# Altium footprint library PcbLib1.PcbLib: 42 footprints (part 1 of 3)
Each footprint in its own frame and in the unit in brackets; x right, y up, seen from the top. Pads: shape width x height; smd on the part's side, far side on the other; paste and mask are expansions set on the pad; w line width, h text height; cw(c..) or ccw(c..) is an arc to the next point about the centre after c.
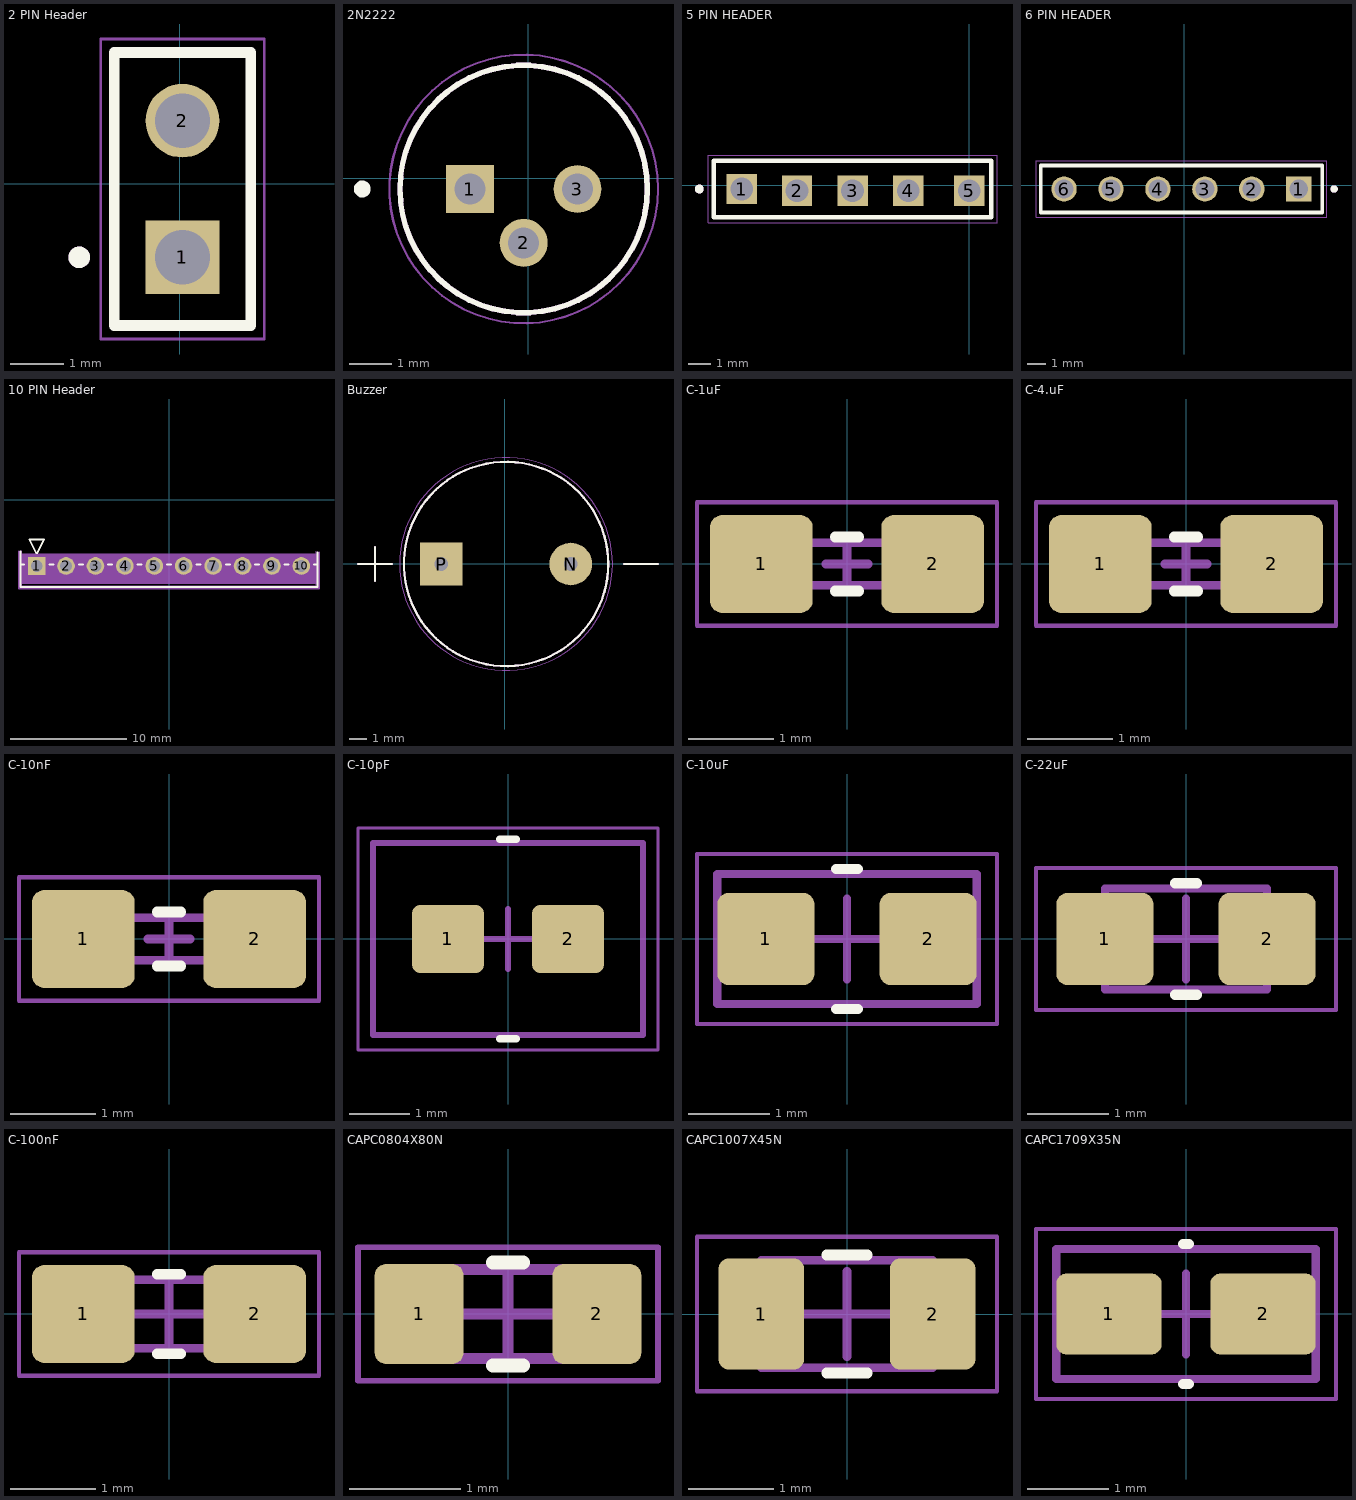
[diagram p0: the footprints below, top view; thin cyan lines are the x and y axes]

## 2 PIN Header [mm]
pads (2):
  rect 1.37x1.37 hole 1.02: 1(0.047,-1.365)
  round 1.37 hole 1.02: 2(0.047,1.175)
Top Overlay:
  circle w0.2: c-1.873,-1.365 r0.1
  lines w0.2: -1.223,-2.635 -1.223,2.445 1.317,2.445 1.317,-2.635 -1.223,-2.635
Top 3D Body:
  circle w0.2: c-1.873,-1.365 r0.1
  lines w0.1: -1.223,-2.635 -1.223,2.445 1.317,2.445 1.317,-2.635 -1.223,-2.635
Top Courtyard:
  lines w0.05: -1.473,-2.885 -1.473,2.695 1.567,2.695 1.567,-2.885 -1.473,-2.885
3D body "MTSW-101-06-G-D-055.stp": height 3.94, standoff -3.68, extent -1.223,-2.762 1.317,2.318

## 2N2222 [mm]
pads (3):
  rect 1.13x1.13 / inner round 1.13 / far side rect 1.13x1.13 hole 0.73 mask+0.102: 1(-1.382,-0.258)
  round 1.13 hole 0.73 mask+0.102: 2(-0.112,-1.528) 3(1.158,-0.258)
Top Overlay:
  circle w0.2: c-3.922,-0.258 r0.1
  circle w0.127: c-0.112,-0.258 r2.92
Top 3D Body:
  circle w0.127: c-0.112,-0.258 r2.92
Top Courtyard:
  circle w0.05: c-0.112,-0.258 r3.17
3D body "step_temp.STEP": height 5.33, standoff -19.05, extent -3.133,-3.046 2.676,2.763

## 5 PIN HEADER [mm]
pads (5):
  rect 1.37x1.37 hole 1.02: 1(-10.232,-0.174) 2(-7.75,-0.25) 3(-5.25,-0.25) 4(-2.75,-0.25) 5(0,-0.25)
Top Overlay:
  circle w0.2: c-12.152,-0.174 r0.1
  lines w0.2: -11.502,-1.444 -11.502,1.096 1,1.096 1,-1.444 -11.502,-1.444
Top 3D Body:
  circle w0.2: c-12.152,-0.174 r0.1
  lines w0.1: -11.502,-1.444 -11.502,1.096 1,1.096 1,-1.444 -11.502,-1.444
Top Courtyard:
  lines w0.05: -11.752,-1.694 -11.752,1.346 1.25,1.346 1.25,-1.694 -11.752,-1.694
3D body "5 pin prog. header.stp": height 2.79, standoff -10.03, extent -11.352,-1.342 1.048,0.994

## 6 PIN HEADER [mm]
pads (6):
  rect 1.37x1.37 / inner round 1.37 / far side rect 1.37x1.37 hole 1.02: 1(6.187,-0.191)
  round 1.37 hole 1.02: 2(3.647,-0.191) 3(1.107,-0.191) 4(-1.433,-0.191) 5(-3.973,-0.191) 6(-6.513,-0.191)
Top Overlay:
  circle w0.2: c8.107,-0.191 r0.1
  lines w0.2: -7.783,-1.461 7.457,-1.461 7.457,1.079 -7.783,1.079 -7.783,-1.461
Top 3D Body:
  circle w0.2: c8.107,-0.191 r0.1
  lines w0.1: -7.783,-1.461 -7.783,1.079 ; -7.783,-1.461 7.457,-1.461 ; -7.783,-1.461 -7.783,1.079 ; -7.783,1.079 7.457,1.079 ; -7.783,1.079 7.457,1.079 ; 7.457,-1.461 7.457,1.079 ; 7.457,-1.461 7.457,1.079
Top Courtyard:
  lines w0.05: -8.033,-1.711 7.707,-1.711 7.707,1.329 -8.033,1.329 -8.033,-1.711
3D body "HEADER6PFEM.stp": height 8.3, standoff -3.2, extent -8.213,-1.391 7.887,1.009

## 10 PIN Header [mil]
pads (10):
  rect 60x60 hole 40 paste-99999 mask+0: 1(-451.02,-224.96)
  round 60 hole 40 paste-99999 mask+0: 2(-351.02,-224.96) 3(-251.02,-224.96) 4(-151.02,-224.96) 5(-51.02,-224.96) 6(48.98,-224.96) 7(148.98,-224.96) 8(248.98,-224.96) 9(348.98,-224.96) 10(448.98,-224.96)
Top Overlay:
  lines w6: -506.02,-219.96 -494.12,-219.96 ; -506.02,-174.69 -506.02,-296.73 503.98,-296.73 503.98,-178.62 ; -452.57,-181.86 -476.02,-134.96 -426.02,-134.96 -449.47,-181.86 ; -407.92,-219.96 -393.83,-219.96 ; -308.21,-219.96 -293.83,-219.96 ; -208.21,-219.96 -193.83,-219.96 ; -108.21,-219.96 -93.83,-219.96 ; -8.21,-219.96 6.17,-219.96 ; 91.79,-219.96 106.17,-219.96 ; 191.79,-219.96 206.17,-219.96 ; 291.79,-219.96 306.17,-219.96 ; 391.79,-219.96 406.17,-219.96 ; 491.79,-219.96 503.98,-219.96
  text ".Designator" at -521.65,-305.12 h50
Top Designator:
  text ".Designator" at -300.93,-238.34 h60
Top 3D Body:
  lines w1: -501.02,-224.96 498.98,-224.96 ; -501.02,-173.62 -501.02,-291.73 498.98,-291.73 498.98,-175.59 ; -476.02,-134.96 -451.02,-184.96 -426.02,-134.96 -476.02,-134.96
  text ".Designator" at -138.52,-249.96 h50
Top Courtyard:
  region: 508.98,-184.96 -511.02,-184.96 -511.02,-285.43 508.98,-285.43
  lines w6: -511.02,-184.96 508.98,-184.96 ; -511.02,-175.75 -511.02,-301.73 508.98,-301.73 508.98,-179.69
3D body "HEADER10P.stp": height 334.65, standoff -118.11, extent -501.02,-274.17 498.98,-175.75

## Buzzer [mm]
pads (2):
  round 2.5 hole 0.8: N(3.89,-0.011)
  rect 2.5x2.5 / inner round 2.5 / far side rect 2.5x2.5 hole 0.8: P(-3.71,-0.011)
Top Overlay:
  circle w0.127: c0.09,-0.011 r6
  lines w0.127: -8.6,-0.011 -6.6,-0.011 ; -7.6,-1.011 -7.6,0.989 ; 7.01,-0.011 9.01,-0.011
Top 3D Body:
  circle w0.127: c0.09,-0.011 r6
  lines w0.127: -8.6,-0.011 -6.6,-0.011 ; -7.6,-1.011 -7.6,0.989 ; 7.01,-0.011 9.01,-0.011
Top Courtyard:
  circle w0.05: c0.09,-0.011 r6.25
3D body "step_temp.STEP": height 7, standoff -7, extent -5.91,-6.011 6.09,5.989

## C-1uF [mm] "Chip Capacitor, 2-Leads, Body 0.53x0.28mm, IPC Medium Density"
height 0.85
pads (2):
  rrect25% 1.2x1.14 smd: 1(-1,0) 2(1,0)
Top Overlay:
  lines w0.127: -0.136,-0.314 0.136,-0.314 ; -0.136,0.313 0.136,0.313
Top Assembly:
  lines w0.1: -0.5,-0.25 -0.5,0.25 0.5,0.25 0.5,-0.25 -0.5,-0.25
Top Designator:
  text ".Designator" at -7.618,-0.508 h1.52
Top Courtyard:
  lines w0.05: -1.75,-0.72 -1.75,0.72 1.75,0.72 1.75,-0.72 -1.75,-0.72
Top Component Center:
  lines w0.1: -0.25,0 0.25,0 ; 0,-0.25 0,0.25
3D body: height 0.85, standoff 0, extent -0.083,-0.138 0.082,0.137
3D body: height 0.85, standoff 0, extent -0.263,-0.138 -0.083,0.137
3D body: height 0.85, standoff 0, extent 0.082,-0.138 0.262,0.137

## C-4.uF [mm] "Chip Capacitor, 2-Leads, Body 0.75x0.50mm, IPC Medium Density"
height 0.85
pads (2):
  rrect25% 1.2x1.14 smd: 1(-1,0) 2(1,0)
Top Overlay:
  lines w0.127: -0.136,-0.314 0.136,-0.314 ; -0.136,0.313 0.136,0.313
Top Assembly:
  lines w0.1: -0.5,-0.25 0.5,-0.25 0.5,0.25 -0.5,0.25 -0.5,-0.25
Top Designator:
  text ".Designator" at -7.618,-0.508 h1.52
Top Courtyard:
  lines w0.05: -1.75,-0.72 1.75,-0.72 1.75,0.72 -1.75,0.72 -1.75,-0.72
Top Component Center:
  lines w0.1: -0.25,0 0.25,0 ; 0,-0.25 0,0.25
3D body: height 0.85, standoff 0, extent 0.195,-0.25 0.375,0.25
3D body: height 0.85, standoff 0, extent -0.375,-0.25 -0.195,0.25
3D body: height 0.85, standoff 0, extent -0.195,-0.25 0.195,0.25

## C-10nF [mm] "Chip Capacitor, 2-Leads, Body 0.53x0.28mm, IPC Medium Density"
height 0.85
pads (2):
  rrect25% 1.2x1.14 smd: 1(-1,0) 2(1,0)
Top Overlay:
  lines w0.127: -0.136,-0.314 0.136,-0.314 ; -0.136,0.313 0.136,0.313
Top Assembly:
  lines w0.1: -0.5,-0.25 0.5,-0.25 0.5,0.25 -0.5,0.25 -0.5,-0.25
Top Designator:
  text ".Designator" at -7.618,-0.508 h1.52
Top Courtyard:
  lines w0.05: -1.75,-0.72 1.75,-0.72 1.75,0.72 -1.75,0.72 -1.75,-0.72
Top Component Center:
  lines w0.1: -0.25,0 0.25,0 ; 0,-0.25 0,0.25
3D body: height 0.85, standoff 0, extent -0.018,-0.138 0.262,0.137
3D body: height 0.85, standoff 0, extent -0.263,-0.138 0.018,0.137
3D body: height 0.85, standoff 0, extent -0.018,-0.138 0.018,0.137

## C-10pF [mm] "Chip Capacitor, 2-Leads, Body 2.45x1.75mm, IPC Medium Density"
height 0.85
pads (2):
  rrect25% 1.2x1.14 smd: 1(-1,0) 2(1,0)
Top Overlay:
  lines w0.127: -0.136,-1.664 0.136,-1.664 ; -0.136,1.663 0.136,1.663
Top Assembly:
  lines w0.1: -2.25,-1.6 -2.25,1.6 2.25,1.6 2.25,-1.6 -2.25,-1.6
Top Designator:
  text ".Designator" at -7.618,-0.508 h1.52
Top Courtyard:
  lines w0.05: -2.5,-1.85 -2.5,1.85 2.5,1.85 2.5,-1.85 -2.5,-1.85
Top Component Center:
  lines w0.1: -0.5,0 0.5,0 ; 0,-0.5 0,0.5
3D body: height 0.85, standoff 0, extent -0.495,-0.875 0.495,0.875
3D body: height 0.85, standoff 0, extent -1.225,-0.875 -0.495,0.875
3D body: height 0.85, standoff 0, extent 0.495,-0.875 1.225,0.875

## C-10uF [mm] "Chip Capacitor, 2-Leads, Body 1.68x0.88mm, IPC Medium Density"
height 0.7
pads (2):
  rrect25% 1.2x1.14 smd: 1(-1,0) 2(1,0)
Top Overlay:
  lines w0.127: -0.136,-0.864 0.136,-0.864 ; -0.136,0.863 0.136,0.863
Top Assembly:
  lines w0.1: -1.6,-0.8 -1.6,0.8 1.6,0.8 1.6,-0.8 -1.6,-0.8
Top Designator:
  text ".Designator" at -7.618,-0.508 h1.52
Top Courtyard:
  lines w0.05: -1.85,-1.05 -1.85,1.05 1.85,1.05 1.85,-1.05 -1.85,-1.05
Top Component Center:
  lines w0.1: -0.5,0 0.5,0 ; 0,-0.5 0,0.5
3D body: height 0.7, standoff 0, extent -0.337,-0.438 0.337,0.437
3D body: height 0.7, standoff 0, extent -0.838,-0.438 -0.337,0.437
3D body: height 0.7, standoff 0, extent 0.337,-0.438 0.837,0.437

## C-22uF [mm] "Chip Capacitor, 2-Leads, Body 1.10x0.73mm, IPC Medium Density"
height 0.7
pads (2):
  rrect25% 1.2x1.14 smd: 1(-1,0) 2(1,0)
Top Overlay:
  lines w0.127: -0.136,-0.689 0.136,-0.689 ; -0.136,0.689 0.136,0.689
Top Assembly:
  lines w0.1: -1,-0.625 1,-0.625 1,0.625 -1,0.625 -1,-0.625
Top Designator:
  text ".Designator" at -7.618,-0.508 h1.52
Top Courtyard:
  lines w0.05: -1.85,-0.875 1.85,-0.875 1.85,0.875 -1.85,0.875 -1.85,-0.875
Top Component Center:
  lines w0.1: -0.5,0 0.5,0 ; 0,-0.5 0,0.5
3D body: height 0.7, standoff 0, extent -0.18,-0.363 0.55,0.362
3D body: height 0.7, standoff 0, extent -0.55,-0.363 0.18,0.362
3D body: height 0.7, standoff 0, extent -0.18,-0.363 0.18,0.362

## C-100nF [mm] "Chip Capacitor, 2-Leads, Body 0.85x0.45mm, IPC Medium Density"
height 0.85
pads (2):
  rrect25% 1.2x1.14 smd: 1(-1,0) 2(1,0)
Top Overlay:
  lines w0.127: -0.136,-0.464 0.136,-0.464 ; -0.136,0.463 0.136,0.463
Top Assembly:
  lines w0.1: -0.8,-0.4 -0.8,0.4 0.8,0.4 0.8,-0.4 -0.8,-0.4
Top Designator:
  text ".Designator" at -7.618,-0.508 h1.52
Top Courtyard:
  lines w0.05: -1.75,-0.72 -1.75,0.72 1.75,0.72 1.75,-0.72 -1.75,-0.72
Top Component Center:
  lines w0.1: -0.4,0 0.4,0 ; 0,-0.4 0,0.4
3D body: height 0.85, standoff 0, extent -0.175,-0.225 0.175,0.225
3D body: height 0.85, standoff 0, extent -0.425,-0.225 0.175,0.225
3D body: height 0.85, standoff 0, extent -0.175,-0.225 0.425,0.225

## CAPC0804X80N [mm] "Chip Capacitor, 2-Leads, Body 0.85x0.45mm, IPC Medium Density"
height 0.8
pads (2):
  rrect25% 0.8x0.9 smd: 1(-0.8,0) 2(0.8,0)
Top Overlay:
  lines w0.127: -0.137,-0.464 0.136,-0.464 ; -0.137,0.463 0.136,0.463
Top Assembly:
  lines w0.1: -0.8,-0.4 -0.8,0.4 0.8,0.4 0.8,-0.4 -0.8,-0.4
Top Designator:
  text ".Designator" at -7.618,-0.508 h1.52
Top Courtyard:
  lines w0.05: -1.35,-0.6 -1.35,0.6 1.35,0.6 1.35,-0.6 -1.35,-0.6
Top Component Center:
  lines w0.1: -0.4,0 0.4,0 ; 0,-0.4 0,0.4
3D body: height 0.8, standoff 0, extent -0.325,-0.225 0.325,0.225
3D body: height 0.8, standoff 0, extent -0.425,-0.225 0.325,0.225
3D body: height 0.8, standoff 0, extent -0.325,-0.225 0.425,0.225

## CAPC1007X45N [mm] "Chip Capacitor, 2-Leads, Body 1.05x0.68mm, IPC Medium Density"
height 0.45
pads (2):
  rrect25% 1x1.3 smd: 1(-1,0) 2(1,0)
Top Overlay:
  lines w0.127: -0.236,-0.689 0.236,-0.689 ; -0.236,0.689 0.236,0.689
Top Assembly:
  lines w0.1: -1,-0.625 -1,0.625 1,0.625 1,-0.625 -1,-0.625
Top Designator:
  text ".Designator" at -7.618,-0.508 h1.52
Top Courtyard:
  lines w0.05: -1.75,-0.9 -1.75,0.9 1.75,0.9 1.75,-0.9 -1.75,-0.9
Top Component Center:
  lines w0.1: -0.5,0 0.5,0 ; 0,-0.5 0,0.5
3D body: height 0.45, standoff 0, extent -0.225,-0.337 0.225,0.338
3D body: height 0.45, standoff 0, extent -0.525,-0.337 0.225,0.338
3D body: height 0.45, standoff 0, extent -0.225,-0.337 0.525,0.338

## CAPC1709X35N [mm] "Chip Capacitor, 2-Leads, Body 1.70x0.90mm, IPC Medium Density"
height 0.35
pads (2):
  rrect25% 1.3x1 smd: 1(-0.95,0) 2(0.95,0)
Top Overlay:
  lines w0.127: -0.036,-0.864 0.036,-0.864 ; -0.036,0.863 0.036,0.863
Top Assembly:
  lines w0.1: -1.6,-0.8 -1.6,0.8 1.6,0.8 1.6,-0.8 -1.6,-0.8
Top Designator:
  text ".Designator" at 0,0.188 h1
Top Courtyard:
  lines w0.05: -1.85,-1.05 -1.85,1.05 1.85,1.05 1.85,-1.05 -1.85,-1.05
Top Component Center:
  lines w0.1: -0.5,0 0.5,0 ; 0,-0.5 0,0.5
3D body: height 0.35, standoff 0, extent -0.45,-0.45 0.45,0.45
3D body: height 0.35, standoff 0, extent -0.85,-0.45 -0.45,0.45
3D body: height 0.35, standoff 0, extent 0.45,-0.45 0.85,0.45